# EAGLE library part TPS56637 (library rev1_lbr)
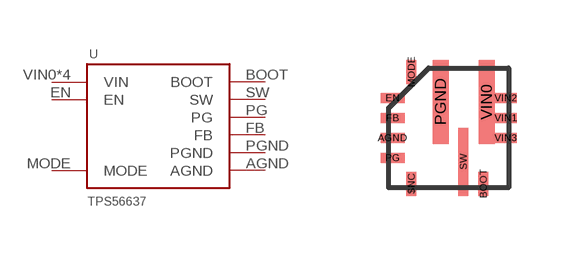
[diagram p3: symbol with the pads of TPS56637RPA; footprint TPS56637RPA]

Designator prefix -

## TPS56637  [TPS56637RPA]
AGND  AGND
BOOT  BOOT
EN  EN
FB  FB
MODE  MODE
PG  PG
PGND  PGND
SW  SW
VIN0  VIN
VIN1  VIN
VIN2  VIN
VIN3  VIN

## Footprint TPS56637RPA (pad centres in mm)
smd 0.25 x 0.6: $NC -0.93,-1.4; BOOT 0.87,-1.4; MODE -0.93,1.4
smd 0.6 x 0.25: AGND -1.4,-0.25; EN -1.4,0.75; FB -1.4,0.25; PG -1.4,-0.75
smd 0.4 x 2.1: PGND -0.2,0.65; VIN0 0.95,0.65
smd 0.25 x 1.7: SW 0.37,-0.85
smd 0.56 x 0.25: VIN1 1.43,0.25; VIN2 1.43,0.75; VIN3 1.43,-0.25